# Altium footprint library Footprints.PcbLib: 2 footprints
Each footprint in its own frame and in the unit in brackets; x right, y up, seen from the top. Pads: shape width x height; smd on the part's side, far side on the other; paste and mask are expansions set on the pad; w line width, h text height; cw(c..) or ccw(c..) is an arc to the next point about the centre after c.
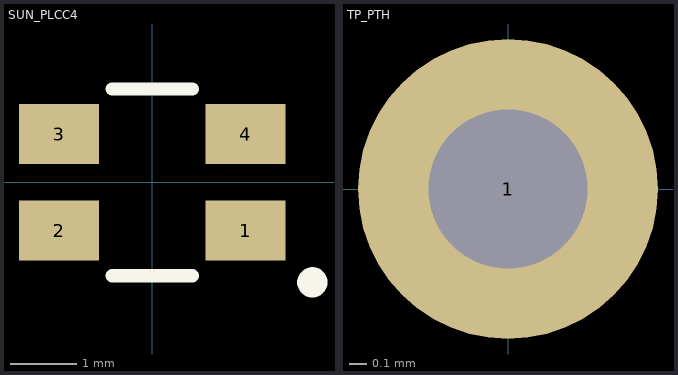
[diagram p0: the footprints below, top view; thin cyan lines are the x and y axes]

## SUN_PLCC4 [mm] "3.5x2.8mm PLCC4 SMD LED"
height 1.905
pads (4):
  rect 1.2x0.9 smd: 1(1.4,-0.725) 2(-1.4,-0.725) 3(-1.4,0.725) 4(1.4,0.725)
Top Overlay:
  circle w0.254: c2.4,-1.5 r0.1
  lines w0.2: -0.6,-1.4 0.6,-1.4 ; -0.6,1.4 0.6,1.4
3D body "XZxxxx45.step": height 1.87, standoff -0.03, extent -1.75,-1.4 1.75,1.4

## TP_PTH [mm] "PTH Test Point"
pads (1):
  round 1.7 hole 0.9: 1(0,0)